# Altium schematic symbol library electromechanics.SchLib: 12 symbols
Pins are listed as number, name and electrical type; pins without a type are passive.

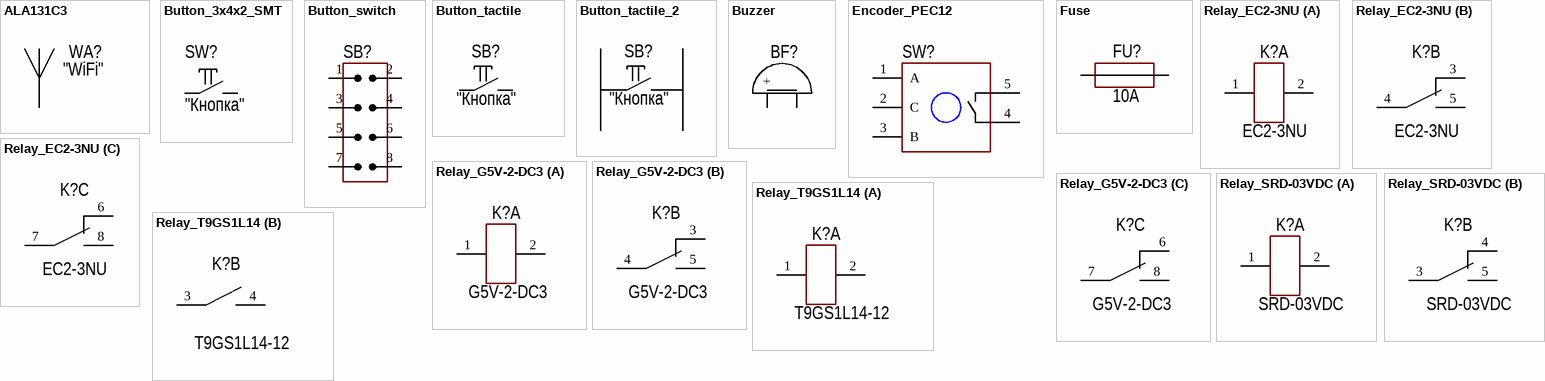
[diagram p0: symbols ALA131C3 to Relay_T9GS1L14]

## ALA131C3
designator WA?  CommentText: "WiFi"
SMD antenna; Manufacturer: Amotech; ValueManufacturerPartNumber: SMD Antenna, 2.4 GHz, 2.8 dBi; PartNumber: ALA131C3; Frequency: 2.4 GHz; Power: 2.8 dBi; HelpURL: https://www.electronshik.ru/item/AMOTECH/ALA131C3; Type: SMD Antenna
footprint ANT: ALA131C3
pins: 1

## Button_3x4x2_SMT
designator SW?  CommentText: "Кнопка"
SMT 3*4*2 2PIN; Manufacturer: xin cheng electronic; HelpURL: https://aliexpress.ru/item/32309509976.html?spm=a2g0v.12010612.8148356.51.441f61b1yUlL0Q; ValueManufacturerPartNumber: =TypeButton+', '+Package; PartNumber: 3*4*2 2PIN; Package: 3*4*2mm
footprint BUT: 3x4x2 SMT
pins: 1, 2

## Button_switch
designator SB?
Manufacturer: TE Connectivity; ValueManufacturerPartNumber: DIP switch, 4pin, 24VDC, 25mA, -40...+85°C; PartNumber: 418117270904; TypeButton: DIP switch; VoltageMax: 24VDC; CurrentMax: 25mA; Multichannel: 4pin; HelpURL: https://www.digikey.com/product-detail/en/te-connectivity-alcoswitch-switches/FSM2JSMAATR/450-1792-1-ND/3503931; Temperature: -40...+85°C
footprint BUT: 418117270904
pins: 1 IN, 2 IN, 3 IN, 4 IN, 5 IN, 6 IN, 7 IN, 8 IN

## Button_tactile
designator SB?  CommentText: "Кнопка"
Manufacturer: TE Connectivity; ValueManufacturerPartNumber: Tactile button, 6x6mm; PartNumber: FSM2JSMAATR; TypeButton: Tactile button; HelpURL: https://www.digikey.com/product-detail/en/te-connectivity-alcoswitch-switches/FSM2JSMAATR/450-1792-1-ND/3503931; Package: 6x6mm
footprint BUT: 6x3.5 TH
footprint BUT: 6x6 (Leaded Tactile Button 6x6)
footprint BUT: 6x6 SMD (Leaded Tactile Button 6x6)
footprint BUT: 6x3.5 SMD
footprint BUT: 436333045822
footprint MX1A-11NN (Keyboard Switch)
footprint KS-27 (Keyboard Switch)
pins: 1, 2

## Button_tactile_2
designator SB?  CommentText: "Кнопка"
Manufacturer: TE Connectivity; ValueManufacturerPartNumber: Tactile button, 6x6mm; PartNumber: FSM2JSMAATR; TypeButton: Tactile button; HelpURL: https://www.digikey.com/product-detail/en/te-connectivity-alcoswitch-switches/FSM2JSMAATR/450-1792-1-ND/3503931; Package: 6x6mm
footprint BUT: 6x6 (Leaded Tactile Button 6x6)
footprint BUT: 6x6 SMD (Leaded Tactile Button 6x6)
footprint BUT: 436333045822
footprint 12x12mm
footprint 12x12mm smd (12x12)
pins: 1, 2, 3, 4

## Buzzer
designator BF?
Manufacturer: PUI Audio; ValueManufacturerPartNumber: DIP switch, 2.73 kHz, 3VDC, 80mA, -20...+70°C; PartNumber: AT-0927-TT-6-R; TypeBuzzer: DIP switch; VoltageMax: 3VDC; Frequency: 2.73 kHz; CurrentMax: 80mA; HelpURL: https://www.digikey.com/products/en?keywords=AT-0927-TT-6-R; Temperature: -20...+70°C
footprint BUZ: AI-1223-TWT-3V-2-R
footprint BUZ: AT-0927-TT-6-R
footprint BUZ: CMT-7525
pins: 1 +, 2 -

## Encoder_PEC12
designator SW?
Manufacturer: Bourns; ValueManufacturerPartNumber: Quadrature encoder, PEC12R; PartNumber: PEC12R-4115F-S0012; TypeEncoder: Quadrature encoder; SeriesEncoder: PEC12R; HelpURL: https://www.digikey.com/product-detail/en/bourns-inc/PEC12R-4115F-S0012/PEC12R-4115F-S0012-ND/6153386
footprint ENC: PEC-12
pins: 1 A, 2 C, 3 B, 4, 5

## Fuse
designator FU?  MaxCurrent: 10A
Manufacturer: Littelfuse; PartNumber: 01110501Z; TypeFuse: Electromechanics relay; VoltageMax: 250VAC; Package: 5x20mm; HelpURL: https://www.digikey.com/products/en?keywords=01110501Z; ValueManufacturerPartNumber: =TypeFuse+', '+VoltageMax+', '+MaxCurrent+', '+Package+', '+Temperature
footprint FUSE: 0ADBP3000-RE
footprint FUSE: 0679H (BelFuse)
footprint FUSE: 01110501Z (5x20 mm)
footprint FUSE: CQ-216
footprint FUSE: FC-001S
footprint FUSE: FH-100 (5x20 mm)
footprint FUSE: FH-101 (Fuse connector PCB mount)
footprint FUSE: 1206
footprint FUSE: 1812
footprint FUSE: 0603
pins: 1, 2

## Relay_EC2-3NU
designator K?  PartNumber: EC2-3NU
Manufacturer: KEMET; ValueManufacturerPartNumber: Electromechanics relay, 3VDC, 250VAC, 2A, 2NO+2NC, -40...+85°C; TypeRelay: Electromechanics relay; VoltageMax: 250VAC; VoltageControlCoil: 3VDC; MaxCurrent: 2A; Package: 2NO+2NC; HelpURL: https://www.digikey.com/products/en?keywords=EC2-3NU; Temperature: -40...+85°C
footprint REL: EC2-3NU
part A pins: 1, 2
part B pins: 3, 4, 5
part C pins: 6, 7, 8

## Relay_G5V-2-DC3
designator K?  PartNumber: G5V-2-DC3
Manufacturer: Omron; ValueManufacturerPartNumber: Electromechanics relay, 3VDC, 125VAC, 2A, 2NO+2NC, -40...+85°C; TypeRelay: Electromechanics relay; VoltageMax: 125VAC; VoltageControlCoil: 3VDC; MaxCurrent: 2A; Package: 2NO+2NC; HelpURL: https://www.digikey.com/product-detail/en/omron-electronics-inc-emc-div/G5V-2-DC3/Z2185-ND/369042; Temperature: -40...+85°C
footprint REL: OMRON_G5V (Omron G5V relay)
part A pins: 1, 2
part B pins: 3, 4, 5
part C pins: 6, 7, 8

## Relay_SRD-03VDC
designator K?  PartNumber: SRD-03VDC
Manufacturer: Ningbo Songle; ValueManufacturerPartNumber: Electromechanics relay, 3VDC, 250VAC, 10A, 1NO, -40...+85°C; TypeRelay: Electromechanics relay; VoltageMax: 250VAC; VoltageControlCoil: 3VDC; MaxCurrent: 10A; Package: 1NO; HelpURL: https://lcsc.com/product-detail/Relays_SRD-03VDC-SL-C_C24585.html; Temperature: -40...+85°C
footprint REL: SRD-03VDC
part A pins: 1, 2
part B pins: 3, 4, 5

## Relay_T9GS1L14
designator K?  PartNumber: T9GS1L14-12
Manufacturer: TE Connectivity; ValueManufacturerPartNumber: Electromechanics relay, 12VDC, 480VAC, 30A, 1NO, -40...+85°C; TypeRelay: Electromechanics relay; VoltageMax: 480VAC; VoltageControlCoil: 12VDC; MaxCurrent: 30A; Package: 1NO; HelpURL: https://www.digikey.com/products/en?keywords=T9GS1L14-12; Temperature: -40...+85°C
footprint REL: T9GS1
part A pins: 1, 2
part B pins: 3, 4